# Altium schematic symbol library USB3340-EZK-TR.SchLib: 1 symbol
Pins are listed as number, name and electrical type; pins without a type are passive.

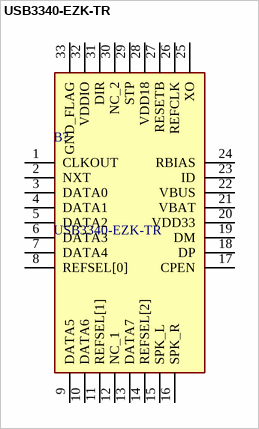
[diagram p0: symbol USB3340-EZK-TR]

## USB3340-EZK-TR
designator B?
Microchip USB3340-EZK-TR, USB Transceiver, USB 2.0 at 480Mbit/s, 5.5 V, 32-Pin QFN; Geometry.Height: 1mm; Mouser Part Number: 886-USB3340-EZK-TR; Mouser Price/Stock: https://www.mouser.co.uk/ProductDetail/Microchip-Technology/USB3340-EZK-TR?qs=pA5MXup5wxES2TIeidc1qQ%3D%3D; Manufacturer_Name: Microchip; Manufacturer_Part_Number: USB3340-EZK-TR; Datasheet Link: http://www.microchip.com/mymicrochip/filehandler.aspx?ddocname=en567926
footprint QFN50P500X500X100-33N-D
pins: 1 CLKOUT, 2 NXT, 3 DATA0, 4 DATA1, 5 DATA2, 6 DATA3, 7 DATA4, 8 REFSEL[0], 9 DATA5, 10 DATA6, 11 REFSEL[1], 12 NC_1, 13 DATA7, 14 REFSEL[2], 15 SPK_L, 16 SPK_R, 17 CPEN, 18 DP, 19 DM, 20 VDD33, 21 VBAT, 22 VBUS, 23 ID, 24 RBIAS, 25 XO, 26 REFCLK, 27 RESETB, 28 VDD18, 29 STP, 30 NC_2, 31 DIR, 32 VDDIO, 33 GND_FLAG